# Altium footprint library WS-TASV.PcbLib: 93 footprints (part 2 of 6)
Each footprint in its own frame and in the unit in brackets; x right, y up, seen from the top. Pads: shape width x height; smd on the part's side, far side on the other; paste and mask are expansions set on the pad; w line width, h text height; cw(c..) or ccw(c..) is an arc to the next point about the centre after c.
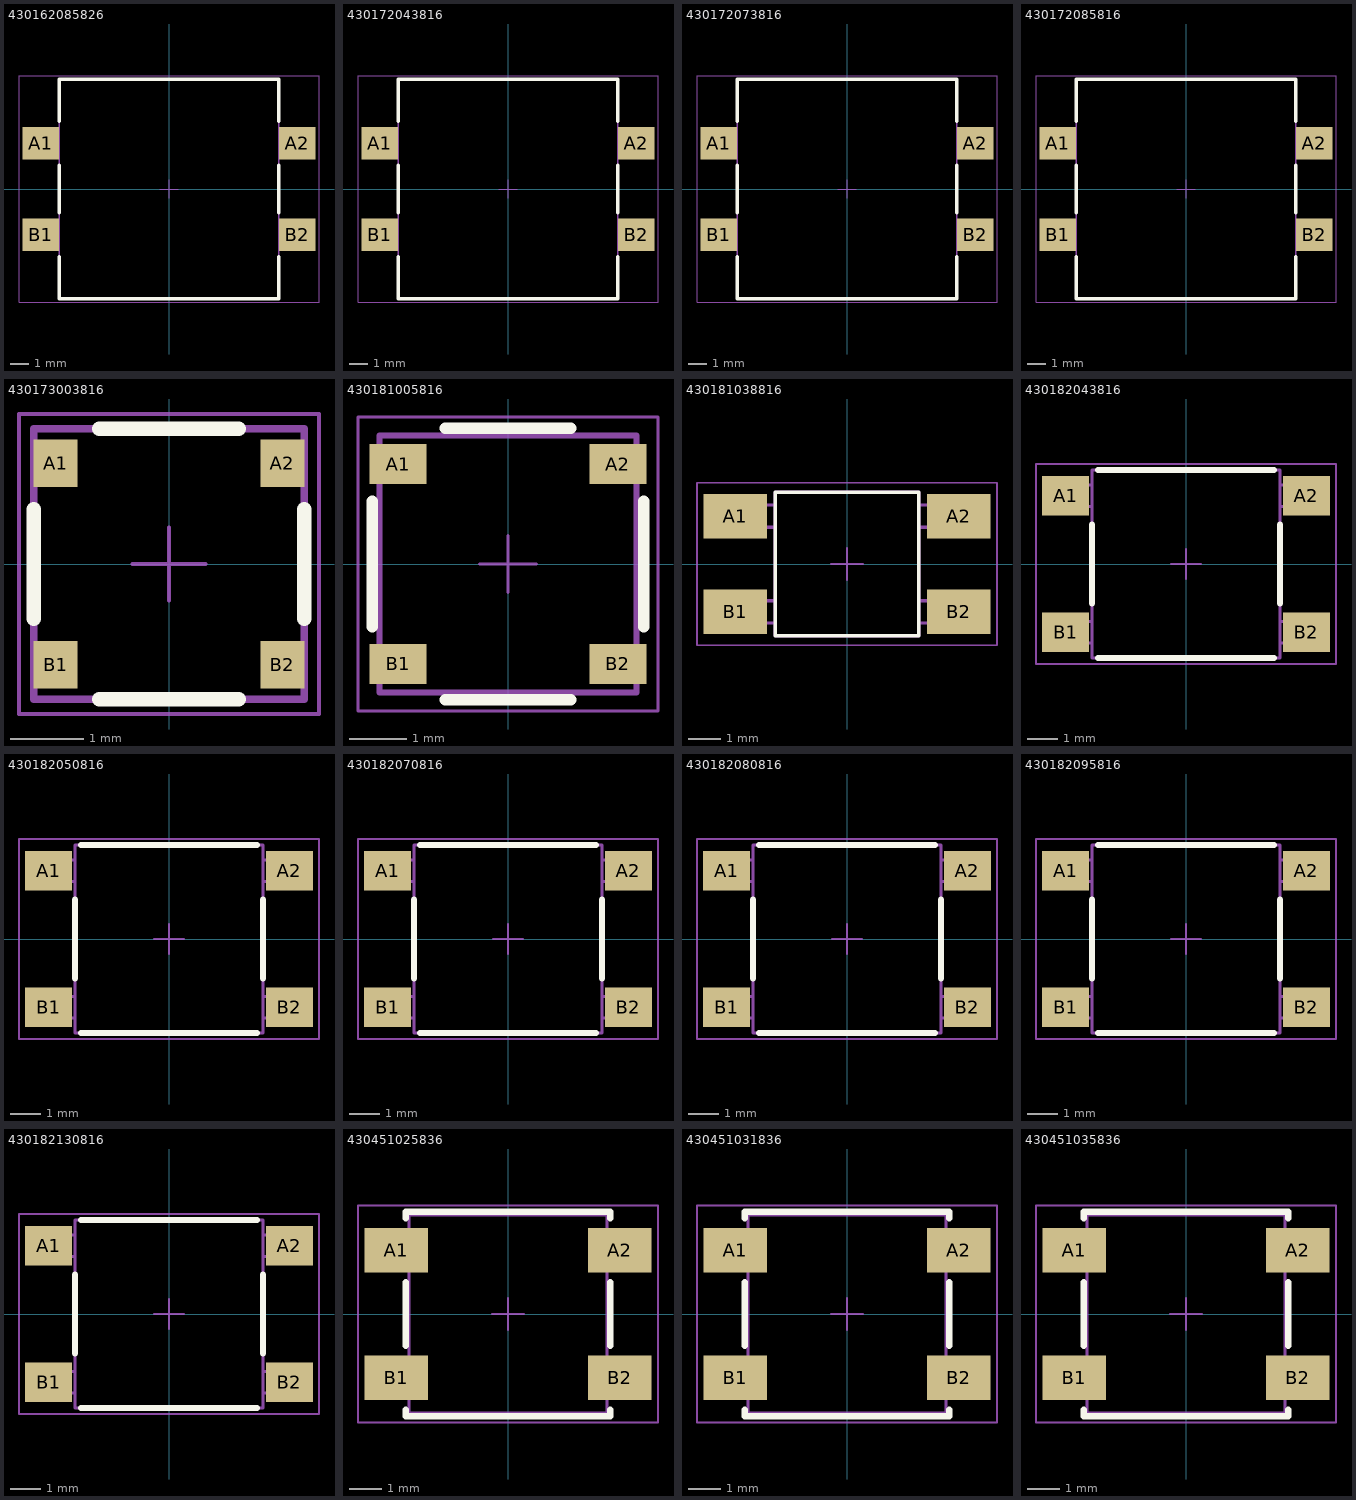
[diagram p1: the footprints below, top view; thin cyan lines are the x and y axes]

## 430162085826 [mm] "Tact Switch, SMD, body 12x12mm"
height 8.5
pads (4):
  rect 2x1.8 smd: A1(-7,2.5) A2(7,2.5) B1(-7,-2.5) B2(7,-2.5)
Top Overlay:
  lines w0.2: -6,-3.7 -6,-6 6,-6 6,-3.7 ; -6,-1.3 -6,1.3 ; -6,3.7 -6,6 6,6 6,3.7 ; 6,-1.3 6,1.3
Top Component Outline:
  lines w0.1: -6,-3 -7.65,-3 -7.65,-2 -6,-2 ; -6,2 -7.65,2 -7.65,3 -6,3 ; 6,-3 7.65,-3 7.65,-2 6,-2 ; 6,2 7.65,2 7.65,3 6,3 ; -6,-6 6,-6 6,6 -6,6 -6,-6
Top Courtyard:
  lines w0.05: -8.2,-6.2 -8.2,6.2 8.2,6.2 8.2,-6.2 -8.2,-6.2
Top Component Center:
  lines w0.05: -0.5,0 0.5,0 ; 0,-0.5 0,0.5
Top Designator (Mech19):
  text ".Designator" at -4.998,-0.333 h1
3D body "4301x20858x6.stp": height 8.5, standoff 0, extent -7.65,-6 7.65,6

## 430172043816 [mm] "Tact Switch, SMD, body 12x12mm"
height 4.3
pads (4):
  rect 2x1.8 smd: A1(-7,2.5) A2(7,2.5) B1(-7,-2.5) B2(7,-2.5)
Top Overlay:
  lines w0.2: -6,-3.7 -6,-6 6,-6 6,-3.7 ; -6,-1.3 -6,1.3 ; -6,3.7 -6,6 6,6 6,3.7 ; 6,-1.3 6,1.3
Top Component Outline:
  lines w0.1: -6,-3 -7.65,-3 -7.65,-2 -6,-2 ; -6,2 -7.65,2 -7.65,3 -6,3 ; 6,-3 7.65,-3 7.65,-2 6,-2 ; 6,2 7.65,2 7.65,3 6,3 ; -6,-6 6,-6 6,6 -6,6 -6,-6
Top Courtyard:
  lines w0.05: -8.2,-6.2 -8.2,6.2 8.2,6.2 8.2,-6.2 -8.2,-6.2
Top Component Center:
  lines w0.05: -0.5,0 0.5,0 ; 0,-0.5 0,0.5
Top Designator (Mech19):
  text ".Designator" at -4.998,-0.333 h1
3D body "4301x20438x6.stp": height 4.31, standoff 0, extent -7.65,-6 7.65,6

## 430172073816 [mm] "Tact Switch, SMD, body 12x12mm"
height 7.3
pads (4):
  rect 2x1.8 smd: A1(-7,2.5) A2(7,2.5) B1(-7,-2.5) B2(7,-2.5)
Top Overlay:
  lines w0.2: -6,-3.7 -6,-6 6,-6 6,-3.7 ; -6,-1.3 -6,1.3 ; -6,3.7 -6,6 6,6 6,3.7 ; 6,-1.3 6,1.3
Top Component Outline:
  lines w0.1: -6,-3 -7.65,-3 -7.65,-2 -6,-2 ; -6,2 -7.65,2 -7.65,3 -6,3 ; 6,-3 7.65,-3 7.65,-2 6,-2 ; 6,2 7.65,2 7.65,3 6,3 ; -6,-6 -6,6 6,6 6,-6 -6,-6
Top Courtyard:
  lines w0.05: -8.2,-6.2 8.2,-6.2 8.2,6.2 -8.2,6.2 -8.2,-6.2
Top Component Center:
  lines w0.05: -0.5,0 0.5,0 ; 0,-0.5 0,0.5
Top Designator (Mech19):
  text ".Designator" at -4.998,-0.333 h1
3D body "4301x20738x6.stp": height 7.3, standoff 0, extent -7.65,-6 7.65,6

## 430172085816 [mm] "Tact Switch, SMD, body 12x12mm"
height 8.5
pads (4):
  rect 2x1.8 smd: A1(-7,2.5) A2(7,2.5) B1(-7,-2.5) B2(7,-2.5)
Top Overlay:
  lines w0.2: -6,-3.7 -6,-6 6,-6 6,-3.7 ; -6,-1.3 -6,1.3 ; -6,3.7 -6,6 6,6 6,3.7 ; 6,-1.3 6,1.3
Top Component Outline:
  lines w0.1: -6,-3 -7.65,-3 -7.65,-2 -6,-2 ; -6,2 -7.65,2 -7.65,3 -6,3 ; 6,-3 7.65,-3 7.65,-2 6,-2 ; 6,2 7.65,2 7.65,3 6,3 ; -6,-6 -6,6 6,6 6,-6 -6,-6
Top Courtyard:
  lines w0.05: -8.2,-6.2 8.2,-6.2 8.2,6.2 -8.2,6.2 -8.2,-6.2
Top Component Center:
  lines w0.05: -0.5,0 0.5,0 ; 0,-0.5 0,0.5
Top Designator (Mech19):
  text ".Designator" at -4.998,-0.333 h1
3D body "4301x20858x6.stp": height 8.5, standoff 0, extent -7.65,-6 7.65,6

## 430173003816 [mm] "Tact Switch, SMD, body 3.7x3.7mm"
height 0.35
pads (4):
  rect 0.6x0.65 smd: A1(-1.55,1.375) A2(1.55,1.375) B1(-1.55,-1.375) B2(1.55,-1.375)
Top Overlay:
  lines w0.2: -1.85,-0.75 -1.85,0.75 ; -0.95,-1.85 0.95,-1.85 ; -0.95,1.85 0.95,1.85 ; 1.85,-0.75 1.85,0.75
Top Component Outline:
  lines w0.1: -1.85,-1.85 -1.85,1.85 1.85,1.85 1.85,-1.85 -1.85,-1.85
Top Courtyard:
  lines w0.05: -2.05,-2.05 -2.05,2.05 2.05,2.05 2.05,-2.05 -2.05,-2.05
Top Component Center:
  lines w0.05: -0.5,0 0.5,0 ; 0,-0.5 0,0.5
Top Designator (Mech19):
  text ".Designator" at -4.998,-0.333 h1
3D body "4301x30038xx.stp": height 0.35, standoff 0, extent -1.85,-1.85 1.85,1.85

## 430181005816 [mm] "Tact Switch, SMD, body 4.5x4.5mm"
height 0.55
pads (4):
  rect 1x0.7 smd: A1(-1.925,1.75) A2(1.925,1.75) B1(-1.925,-1.75) B2(1.925,-1.75)
Top Overlay:
  lines w0.2: -2.375,-1.1 -2.375,1.1 ; -1.1,-2.375 1.1,-2.375 ; -1.1,2.375 1.1,2.375 ; 2.375,-1.1 2.375,1.1
Top Component Outline:
  lines w0.1: -2.25,-2.25 -2.25,2.25 2.25,2.25 2.25,-2.25 -2.25,-2.25
Top Courtyard:
  lines w0.05: -2.625,-2.575 -2.625,2.575 2.625,2.575 2.625,-2.575 -2.625,-2.575
Top Component Center:
  lines w0.05: -0.5,0 0.5,0 ; 0,-0.5 0,0.5
Top Designator (Mech19):
  text ".Designator" at -4.998,-0.333 h1
3D body "4301x10058x6.stp": height 0.55, standoff -0.01, extent -2.375,-2.25 2.375,2.25

## 430181038816 [mm] "Tact Switch, SMD, body 4.5x4.5mm"
height 3.8
pads (4):
  rect 2x1.4 smd: A1(-3.5,1.5) A2(3.5,1.5) B1(-3.5,-1.5) B2(3.5,-1.5)
Top Overlay:
  lines w0.1: -2.25,-2.25 -2.25,2.25 2.25,2.25 2.25,-2.25 -2.25,-2.25
Top Component Outline:
  lines w0.1: -2.25,-1.85 -3.75,-1.85 -3.75,-1.15 -2.25,-1.15 ; -2.25,1.15 -3.75,1.15 -3.75,1.85 -2.25,1.85 ; 2.25,-1.85 3.75,-1.85 3.75,-1.15 2.25,-1.15 ; 2.25,1.15 3.75,1.15 3.75,1.85 2.25,1.85 ; -2.25,-2.25 -2.25,2.25 2.25,2.25 2.25,-2.25 -2.25,-2.25
Top Courtyard:
  lines w0.05: -4.7,-2.55 -4.7,2.55 4.7,2.55 4.7,-2.55 -4.7,-2.55
Top Component Center:
  lines w0.05: -0.5,0 0.5,0 ; 0,-0.5 0,0.5
Top Designator (Mech19):
  text ".Designator" at -4.998,-0.333 h1
3D body "430181038816.stp": height 3.8, standoff 0, extent -3.75,-2.25 3.75,2.25

## 430182043816 [mm] "SMD Tact Switch, body 6x6mm"
height 4.3
pads (4):
  rect 1.55x1.3 smd: A1(-3.975,2.25) A2(3.975,2.25) B1(-3.975,-2.25) B2(3.975,-2.25)
Top Overlay:
  lines w0.2: -3.1,-1.3 -3.1,1.3 ; -2.9,-3.1 2.9,-3.1 ; -2.9,3.1 2.9,3.1 ; 3.1,-1.3 3.1,1.3
Top Component Outline:
  lines w0.1: -3.1,-2.6 -4.5,-2.6 -4.5,-1.9 -3.1,-1.9 ; -3.1,1.9 -4.5,1.9 -4.5,2.6 -3.1,2.6 ; 3.1,-2.6 4.5,-2.6 4.5,-1.9 3.1,-1.9 ; 3.1,1.9 4.5,1.9 4.5,2.6 3.1,2.6 ; -3.1,-3.1 -3.1,3.1 3.1,3.1 3.1,-3.1 -3.1,-3.1
Top Courtyard:
  lines w0.05: -4.95,-3.3 4.95,-3.3 4.95,3.3 -4.95,3.3 -4.95,-3.3
Top Component Center:
  lines w0.05: -0.5,0 0.5,0 ; 0,-0.5 0,0.5
Top Designator (Mech19):
  text ".Designator" at -4.998,-0.333 h1
3D body "4301x20438x6.stp": height 4.3, standoff 0, extent -4.5,-3.1 4.5,3.1

## 430182050816 [mm] "SMD Tact Switch, body 6x6mm"
height 5
pads (4):
  rect 1.55x1.3 smd: A1(-3.975,2.25) A2(3.975,2.25) B1(-3.975,-2.25) B2(3.975,-2.25)
Top Overlay:
  lines w0.2: -3.1,-1.3 -3.1,1.3 ; -2.9,-3.1 2.9,-3.1 ; -2.9,3.1 2.9,3.1 ; 3.1,-1.3 3.1,1.3
Top Component Outline:
  lines w0.1: -3.1,-2.6 -4.5,-2.6 -4.5,-1.9 -3.1,-1.9 ; -3.1,1.9 -4.5,1.9 -4.5,2.6 -3.1,2.6 ; 3.1,-2.6 4.5,-2.6 4.5,-1.9 3.1,-1.9 ; 3.1,1.9 4.5,1.9 4.5,2.6 3.1,2.6 ; -3.1,-3.1 -3.1,3.1 3.1,3.1 3.1,-3.1 -3.1,-3.1
Top Courtyard:
  lines w0.05: -4.95,-3.3 4.95,-3.3 4.95,3.3 -4.95,3.3 -4.95,-3.3
Top Component Center:
  lines w0.05: -0.5,0 0.5,0 ; 0,-0.5 0,0.5
Top Designator (Mech19):
  text ".Designator" at -4.998,-0.333 h1
3D body "4301x20508x6.stp": height 5, standoff 0, extent -4.5,-3.1 4.5,3.1

## 430182070816 [mm] "SMD Tact Switch, body 6x6mm"
height 7
pads (4):
  rect 1.55x1.3 smd: A1(-3.975,2.25) A2(3.975,2.25) B1(-3.975,-2.25) B2(3.975,-2.25)
Top Overlay:
  lines w0.2: -3.1,-1.3 -3.1,1.3 ; -2.9,-3.1 2.9,-3.1 ; -2.9,3.1 2.9,3.1 ; 3.1,-1.3 3.1,1.3
Top Component Outline:
  lines w0.1: -3.1,-2.6 -4.5,-2.6 -4.5,-1.9 -3.1,-1.9 ; -3.1,1.9 -4.5,1.9 -4.5,2.6 -3.1,2.6 ; 3.1,-2.6 4.5,-2.6 4.5,-1.9 3.1,-1.9 ; 3.1,1.9 4.5,1.9 4.5,2.6 3.1,2.6 ; -3.1,-3.1 -3.1,3.1 3.1,3.1 3.1,-3.1 -3.1,-3.1
Top Courtyard:
  lines w0.05: -4.95,-3.3 4.95,-3.3 4.95,3.3 -4.95,3.3 -4.95,-3.3
Top Component Center:
  lines w0.05: -0.5,0 0.5,0 ; 0,-0.5 0,0.5
Top Designator (Mech19):
  text ".Designator" at -4.998,-0.333 h1
3D body "4301x20708x6.stp": height 7, standoff 0, extent -4.5,-3.1 4.5,3.1

## 430182080816 [mm] "SMD Tact Switch, body 6x6mm"
height 8
pads (4):
  rect 1.55x1.3 smd: A1(-3.975,2.25) A2(3.975,2.25) B1(-3.975,-2.25) B2(3.975,-2.25)
Top Overlay:
  lines w0.2: -3.1,-1.3 -3.1,1.3 ; -2.9,-3.1 2.9,-3.1 ; -2.9,3.1 2.9,3.1 ; 3.1,-1.3 3.1,1.3
Top Component Outline:
  lines w0.1: -3.1,-2.6 -4.5,-2.6 -4.5,-1.9 -3.1,-1.9 ; -3.1,1.9 -4.5,1.9 -4.5,2.6 -3.1,2.6 ; 3.1,-2.6 4.5,-2.6 4.5,-1.9 3.1,-1.9 ; 3.1,1.9 4.5,1.9 4.5,2.6 3.1,2.6 ; -3.1,-3.1 -3.1,3.1 3.1,3.1 3.1,-3.1 -3.1,-3.1
Top Courtyard:
  lines w0.05: -4.95,-3.3 -4.95,3.3 4.95,3.3 4.95,-3.3 -4.95,-3.3
Top Component Center:
  lines w0.05: -0.5,0 0.5,0 ; 0,-0.5 0,0.5
Top Designator (Mech19):
  text ".Designator" at -4.998,-0.333 h1
3D body "4301x20808x6.stp": height 8, standoff 0, extent -4.5,-3.1 4.5,3.1

## 430182095816 [mm] "SMD Tact Switch, body 6x6mm"
height 9.5
pads (4):
  rect 1.55x1.3 smd: A1(-3.975,2.25) A2(3.975,2.25) B1(-3.975,-2.25) B2(3.975,-2.25)
Top Overlay:
  lines w0.2: -3.1,-1.3 -3.1,1.3 ; -2.9,-3.1 2.9,-3.1 ; -2.9,3.1 2.9,3.1 ; 3.1,-1.3 3.1,1.3
Top Component Outline:
  lines w0.1: -3.1,-2.6 -4.5,-2.6 -4.5,-1.9 -3.1,-1.9 ; -3.1,1.9 -4.5,1.9 -4.5,2.6 -3.1,2.6 ; 3.1,-2.6 4.5,-2.6 4.5,-1.9 3.1,-1.9 ; 3.1,1.9 4.5,1.9 4.5,2.6 3.1,2.6 ; -3.1,-3.1 3.1,-3.1 3.1,3.1 -3.1,3.1 -3.1,-3.1
Top Courtyard:
  lines w0.05: -4.95,-3.3 4.95,-3.3 4.95,3.3 -4.95,3.3 -4.95,-3.3
Top Component Center:
  lines w0.05: -0.5,0 0.5,0 ; 0,-0.5 0,0.5
Top Designator (Mech19):
  text ".Designator" at -4.998,-0.333 h1
3D body "4301x20958x6.stp": height 9.5, standoff 0, extent -4.5,-3.1 4.5,3.1

## 430182130816 [mm] "SMD Tact Switch, body 6.20 x 6.20 mm"
height 13
pads (4):
  rect 1.55x1.3 smd: A1(-3.975,2.25) A2(3.975,2.25) B1(-3.975,-2.25) B2(3.975,-2.25)
Top Overlay:
  lines w0.2: -3.1,-1.3 -3.1,1.3 ; -2.9,-3.1 2.9,-3.1 ; -2.9,3.1 2.9,3.1 ; 3.1,-1.3 3.1,1.3
Top Component Outline:
  lines w0.1: -3.1,-2.6 -4.5,-2.6 -4.5,-1.9 -3.1,-1.9 ; -3.1,1.9 -4.5,1.9 -4.5,2.6 -3.1,2.6 ; 3.1,-2.6 4.5,-2.6 4.5,-1.9 3.1,-1.9 ; 3.1,1.9 4.5,1.9 4.5,2.6 3.1,2.6 ; -3.1,-3.1 -3.1,3.1 3.1,3.1 3.1,-3.1 -3.1,-3.1
Top Courtyard:
  lines w0.05: -4.95,-3.3 4.95,-3.3 4.95,3.3 -4.95,3.3 -4.95,-3.3
Top Component Center:
  lines w0.05: -0.5,0 0.5,0 ; 0,-0.5 0,0.5
Top Designator (Mech19):
  text ".Designator" at -4.998,-0.333 h1
3D body "4301x21308x6.stp": height 13, standoff 0, extent -4.5,-3.1 4.5,3.1

## 430451025836 [mm] "SMD Tact Switch, body 6x6mm"
height 2.5
pads (4):
  rect 2x1.4 smd: A1(-3.5,2) A2(3.5,2) B1(-3.5,-2) B2(3.5,-2)
Top Overlay:
  lines w0.2: -3.2,-3 -3.2,-3.2 3.2,-3.2 3.2,-3 ; -3.2,-1 -3.2,1 ; -3.2,3 -3.2,3.2 3.2,3.2 3.2,3 ; 3.2,-1 3.2,1
Top Component Outline:
  lines w0.1: -3.1,-2.35 -4,-2.35 -4,-1.65 -3.1,-1.65 ; -3.1,1.65 -4,1.65 -4,2.35 -3.1,2.35 ; 3.1,-2.35 4,-2.35 4,-1.65 3.1,-1.65 ; 3.1,1.65 4,1.65 4,2.35 3.1,2.35 ; -3.1,-3.1 3.1,-3.1 3.1,3.1 -3.1,3.1 -3.1,-3.1
Top Courtyard:
  lines w0.05: -4.7,-3.4 4.7,-3.4 4.7,3.4 -4.7,3.4 -4.7,-3.4
Top Component Center:
  lines w0.05: -0.5,0 0.5,0 ; 0,-0.5 0,0.5
Top Designator (Mech19):
  text ".Designator" at -4.998,-0.333 h1
3D body "430481025816.stp": height 2.5, standoff 0, extent -4,-3.1 4,3.1

## 430451031836 [mm] "SMD Tact Switch, body 6x6mm"
height 3.1
pads (4):
  rect 2x1.4 smd: A1(-3.5,2) A2(3.5,2) B1(-3.5,-2) B2(3.5,-2)
Top Overlay:
  lines w0.2: -3.2,-3 -3.2,-3.2 3.2,-3.2 3.2,-3 ; -3.2,-1 -3.2,1 ; -3.2,3 -3.2,3.2 3.2,3.2 3.2,3 ; 3.2,-1 3.2,1
Top Component Outline:
  lines w0.1: -3.1,-2.35 -4,-2.35 -4,-1.65 -3.1,-1.65 ; -3.1,1.65 -4,1.65 -4,2.35 -3.1,2.35 ; 3.1,-2.35 4,-2.35 4,-1.65 3.1,-1.65 ; 3.1,1.65 4,1.65 4,2.35 3.1,2.35 ; -3.1,-3.1 3.1,-3.1 3.1,3.1 -3.1,3.1 -3.1,-3.1
Top Courtyard:
  lines w0.05: -4.7,-3.4 -4.7,3.4 4.7,3.4 4.7,-3.4 -4.7,-3.4
Top Component Center:
  lines w0.05: -0.5,0 0.5,0 ; 0,-0.5 0,0.5
Top Designator (Mech19):
  text ".Designator" at -4.998,-0.333 h1
3D body "430481031816.stp": height 3.1, standoff 0, extent -4,-3.1 4,3.1

## 430451035836 [mm] "SMD Tact Switch, body 6x6mm"
height 3.5
pads (4):
  rect 2x1.4 smd: A1(-3.5,2) A2(3.5,2) B1(-3.5,-2) B2(3.5,-2)
Top Overlay:
  lines w0.2: -3.2,-3 -3.2,-3.2 3.2,-3.2 3.2,-3 ; -3.2,-1 -3.2,1 ; -3.2,3 -3.2,3.2 3.2,3.2 3.2,3 ; 3.2,-1 3.2,1
Top Component Outline:
  lines w0.1: -3.1,-2.35 -4,-2.35 -4,-1.65 -3.1,-1.65 ; -3.1,1.65 -4,1.65 -4,2.35 -3.1,2.35 ; 3.1,-2.35 4,-2.35 4,-1.65 3.1,-1.65 ; 3.1,1.65 4,1.65 4,2.35 3.1,2.35 ; -3.1,-3.1 -3.1,3.1 3.1,3.1 3.1,-3.1 -3.1,-3.1
Top Courtyard:
  lines w0.05: -4.7,-3.4 -4.7,3.4 4.7,3.4 4.7,-3.4 -4.7,-3.4
Top Component Center:
  lines w0.05: -0.5,0 0.5,0 ; 0,-0.5 0,0.5
Top Designator (Mech19):
  text ".Designator" at -4.998,-0.333 h1
3D body "430481035816.stp": height 3.5, standoff 0, extent -4,-3.1 4,3.1